# EAGLE library part OPA2365 (library TI)
50MHz Low-Noise Rail-to-Rail Operational Amplifier
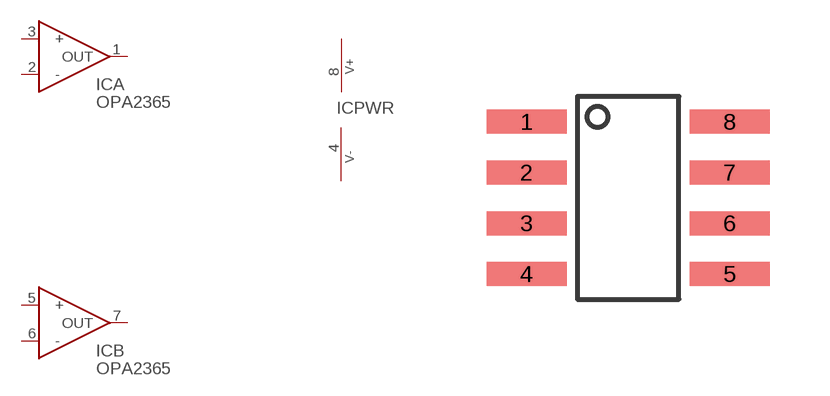
[diagram p14: symbol with the pads of SO8; footprint SO8]

Designator prefix IC; gates PWR=ICPWR-V+-V- A=OPAMP B=OPAMP

## OPA2365D  [SO8]
1  A:OUT
2  A:-
3  A:+
4  PWR:V-  pwr
5  B:+
6  B:-
7  B:OUT
8  PWR:V+  pwr

## Footprint SO8 (pad centres in mm)
SO8 (Texas Instruments)
smd 2 x 0.6: 1 -2.54,1.905; 2 -2.54,0.635; 3 -2.54,-0.635; 4 -2.54,-1.905; 5 2.54,-1.905; 6 2.54,-0.635; 7 2.54,0.635; 8 2.54,1.905